# EAGLE library part 690367290676 (library con-wurth)
RECEPTACLE
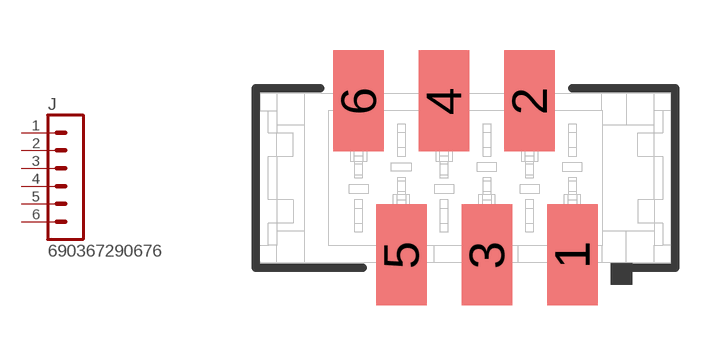
[diagram p0: symbol with the pads of 690367290676; footprint 690367290676]

Designator prefix J

## 690367290676  [690367290676]
1  1  pas
2  2  pas
3  3  pas
4  4  pas
5  5  pas
6  6  pas

## Footprint 690367290676 (pad centres in mm)
Receptacle SMD 6 Position 0.100" (2.54mm)
smd 1.5 x 3: 1 3.175,-2.286; 2 1.905,2.286; 3 0.635,-2.286; 4 -0.635,2.286; 5 -1.905,-2.286; 6 -3.175,2.286